# EAGLE library part CON14P1R (library ads4)
14-pin single-row connector
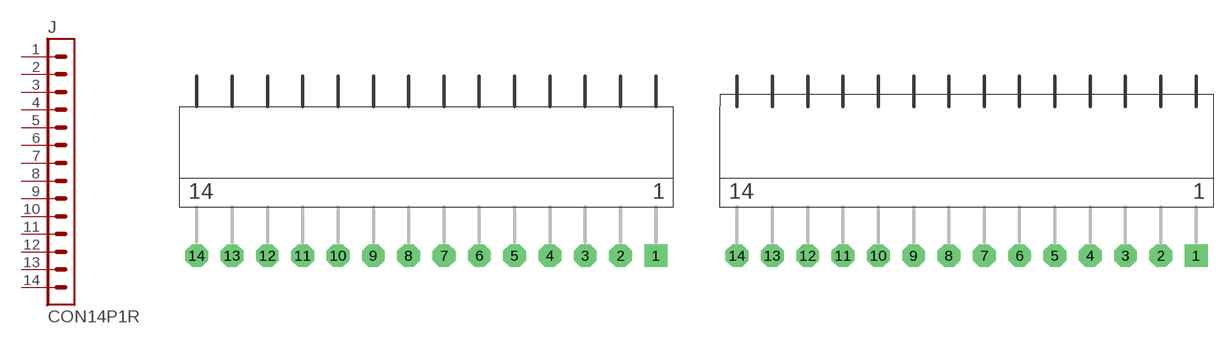
[diagram p56: symbol with the pads of 26-60-5140; footprints 26-60-5140, 26-48-1146]

Designator prefix J

## CON14P1R26-60-5140  [26-60-5140]
1  1  pas
2  2  pas
3  3  pas
4  4  pas
5  5  pas
6  6  pas
7  7  pas
8  8  pas
9  9  pas
10  10  pas
11  11  pas
12  12  pas
13  13  pas
14  14  pas

## CON14P1R26-48-1146  [26-48-1146]
Pads as for 26-60-5140

## Footprint 26-60-5140 (pad centres in mm)
Molex 26-60-5140 14-pin 0.156" right-angle connector
drill 1.702 square: 1 25.756,0
drill 1.702 octagon: 2 21.793,0; 3 17.831,0; 4 13.868,0; 5 9.906,0; 6 5.944,0; 7 1.981,0; 8 -1.981,0; 9 -5.944,0; 10 -9.906,0; 11 -13.868,0; 12 -17.831,0; 13 -21.793,0; 14 -25.756,0

## Footprint 26-48-1146 (pad centres in mm)
Molex 26-48-1146 14-pin 0.156" right-angle breakaway header
drill 1.702 square: 1 25.756,0
drill 1.702 octagon: 2 21.793,0; 3 17.831,0; 4 13.868,0; 5 9.906,0; 6 5.944,0; 7 1.981,0; 8 -1.981,0; 9 -5.944,0; 10 -9.906,0; 11 -13.868,0; 12 -17.831,0; 13 -21.793,0; 14 -25.756,0